# Altium footprint library EECS498Converter.PcbLib: 18 footprints (part 1 of 2)
Each footprint in its own frame and in the unit in brackets; x right, y up, seen from the top. Pads: shape width x height; smd on the part's side, far side on the other; paste and mask are expansions set on the pad; w line width, h text height; cw(c..) or ccw(c..) is an arc to the next point about the centre after c.
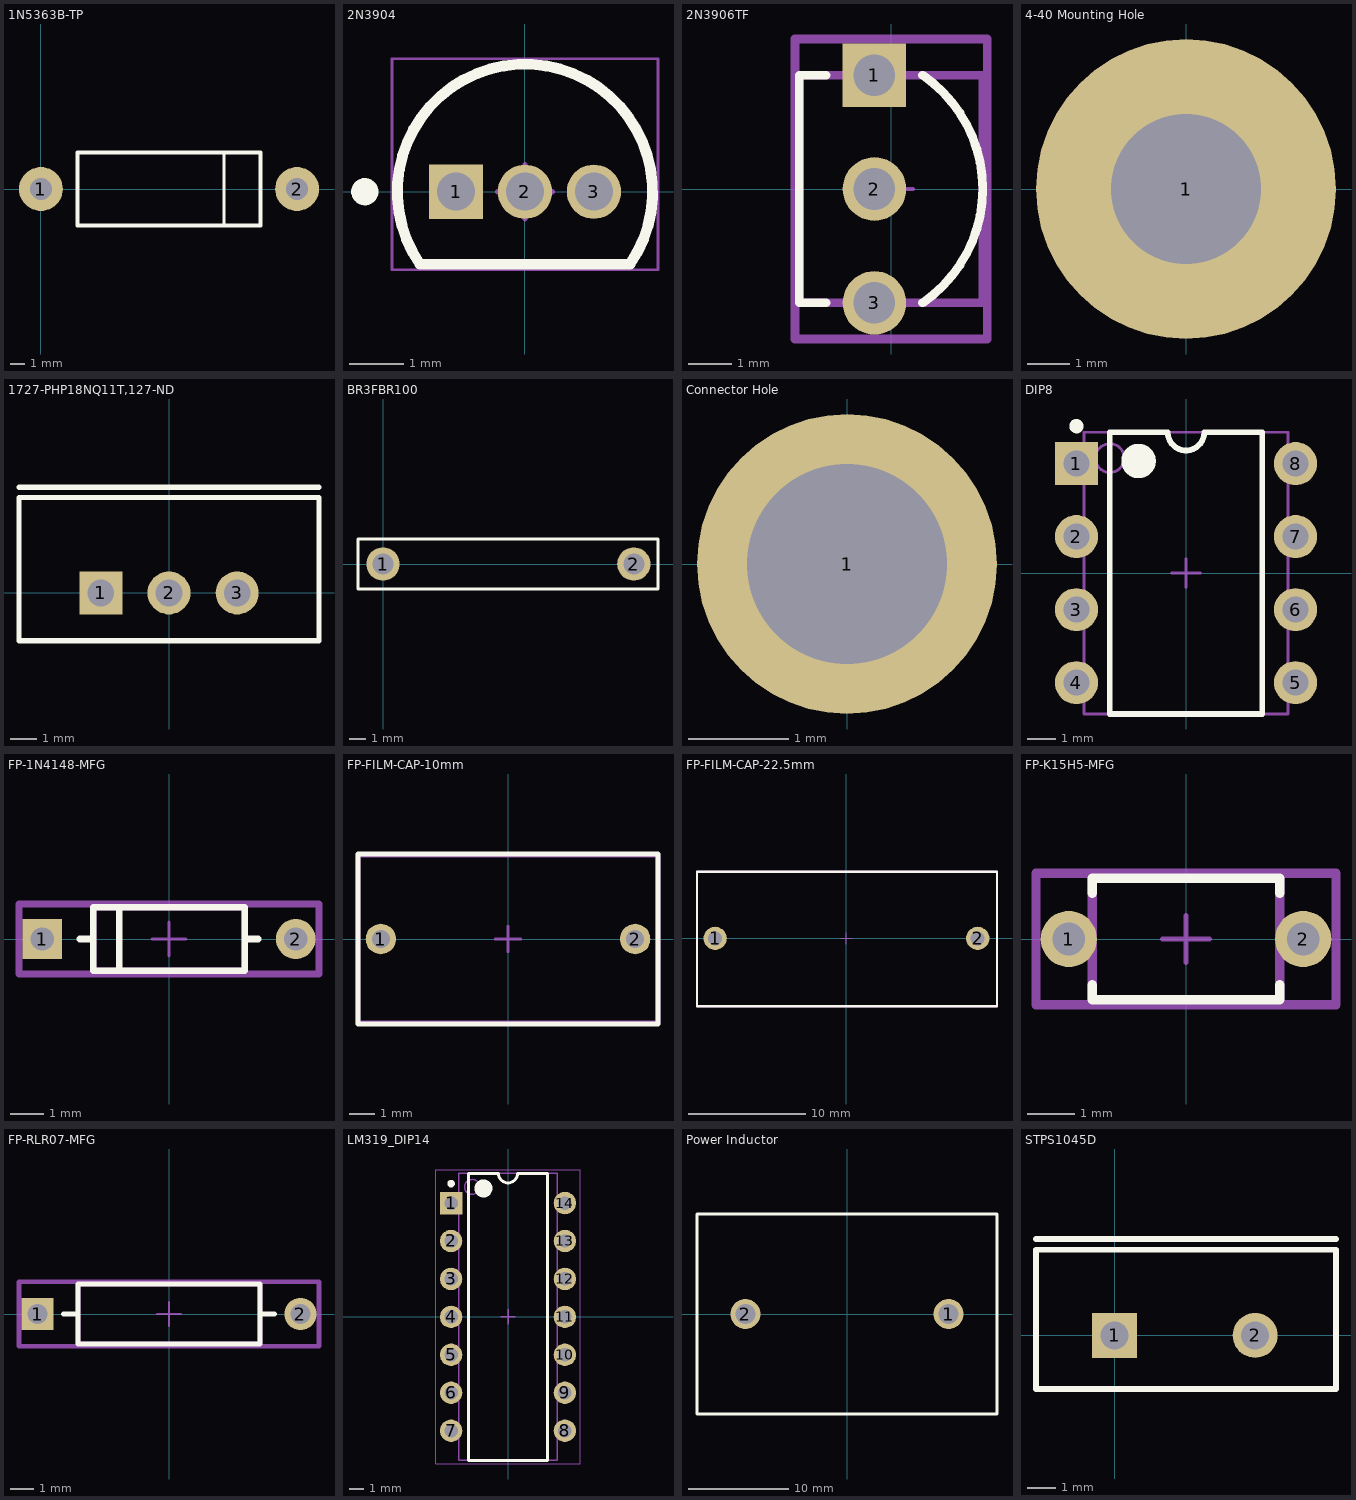
[diagram p0: the footprints below, top view; thin cyan lines are the x and y axes]

## 1N5363B-TP [mm] "Zener Diode THT"
pads (2):
  round 3 hole 1.5: 1(0,0) 2(17.5,0)
Top Overlay:
  lines w0.2: 12.5,-2.5 12.5,2.5
  lines w0.254: 2.5,-2.5 15,-2.5 15,2.5 2.5,2.5 2.5,-2.5

## 2N3904 [mm] "TO, 3-Leads, Body Dia 4.7mm, Pitch 1.27mm"
height 7.87
pads (3):
  rect 1x1 hole 0.7: 1(-1.27,0)
  round 1 hole 0.7: 2(0,0) 3(1.27,0)
Top Overlay:
  circle w0.25: c-2.95,0 r0.125
  lines w0.2: -1.934,-1.335 cw(c0,0) 1.934,-1.335 -1.934,-1.335
Mechanical 13:
  lines w0.1: -1.934,-1.335 cw(c0,0) 1.934,-1.335 -1.934,-1.335
Mechanical 15:
  lines w0.05: -2.45,-1.435 -2.45,2.45 2.45,2.45 2.45,-1.435 -2.45,-1.435
  lines w0.1: -0.5,0 0.5,0 ; 0,-0.5 0,0.5
3D body: height 7.87, standoff 2.54, extent -2.349,-1.334 2.357,2.359

## 2N3906TF [mm]
pads (3):
  rect 1.45x1.45 hole 0.95 paste-1000 mask+0: 1(-0.38,2.6)
  round 1.45 hole 0.95 paste-1000 mask+0: 2(-0.38,0) 3(-0.38,-2.6)
Top Overlay:
  lines w0.2: -1.48,-2.6 -2.095,-2.6 -2.095,2.6 -1.48,2.6 ; 0.72,-2.6 ccw(c-1.058,0) 0.72,2.6
Top 3D Body:
  lines w0.2: -2.095,-2.6 -2.095,2.6 2.095,2.6 2.095,-2.6 -2.095,-2.6
Top Courtyard:
  lines w0.2: -2.195,-3.425 -2.195,3.425 2.195,3.425 2.195,-3.425 -2.195,-3.425
Top Assembly:
  lines w0.2: -2.195,-3.425 -2.195,3.425 2.195,3.425 2.195,-3.425 -2.195,-3.425
Top Component Center:
  lines w0.1: -0.5,0 0.5,0 ; 0,-0.5 0,0.5
3D body "Trans_onsemi_KSA733YTA_eec.STEP": height 0.25, standoff 0, extent -2.195,-3.425 2.195,3.425

## 4-40 Mounting Hole [mm]
pads (1):
  round 7 hole 3.5: 1(0,0)

## 1727-PHP18NQ11T,127-ND [mm] "N-Channel 110 V 18A (Tc) 79W (Tc) Through Hole TO-220AB"
pads (3):
  rect 1.6x1.6 hole 1: 1(-2.54,0)
  round 1.6 hole 1: 2(0,0) 3(2.54,0)
Top Overlay:
  lines w0.2: -5.588,3.937 5.588,3.937 ; -5.588,-1.778 -5.588,3.556 5.588,3.556 5.588,-1.778 -5.588,-1.778
3D body "TO-220AB.stp": height 21.05, standoff -10.26, extent -5.317,-1.575 5.373,3.235

## BR3FBR100 [mil] "100 mOhms ?% 3W Through Hole Resistor Radial Current Sense, Flame Proof, Non-Inductive, Pulse Withstanding, Safety Metal Foil"
pads (2):
  round 80 hole 50: 1(0,0) 2(602,0)
Top Overlay:
  lines w7.87: -60,-60 -60,60 660,60 660,-60 -60,-60
3D body "BR3_stp.stp": height 602.87, standoff -124.69, extent -24.6,-39.36 626.97,39.38

## Connector Hole [mm]
pads (1):
  round 3 hole 2: 1(0,0)

## DIP8 [mm] "8-Pin Plastic Dual In-Line Package (PDIP)"
height 5.34
pads (8):
  rect 1.5x1.5 hole 0.9: 1(-3.81,3.81)
  round 1.5 hole 0.9: 2(-3.81,1.27) 3(-3.81,-1.27) 4(-3.81,-3.81) 5(3.81,-3.81) 6(3.81,-1.27) 7(3.81,1.27) 8(3.81,3.81)
Top Overlay:
  circle w0.25: c-3.81,5.11 r0.125
  circle w0.6: c-1.65,3.9 r0.3
  lines w0.2: -2.65,-4.9 -2.65,4.9 -0.635,4.9 ccw(c0,4.9) 0.635,4.9 2.65,4.9 2.65,-4.9 -2.65,-4.9
Mechanical 13:
  circle w0.1: c-2.65,4 r0.5
  lines w0.1: -3.55,-4.9 -3.55,4.9 3.55,4.9 3.55,-4.9 -3.55,-4.9
Mechanical 15:
  lines w0.1: -0.5,0 0.5,0 ; 0,-0.5 0,0.5
3D body: height 4.32, standoff 0, extent -3.55,-4.9 3.55,4.9

## FP-1N4148-MFG [mm]
pads (2):
  rect 1.2x1.2 hole 0.7 paste-1000 mask+0: 1(-3.813,0)
  round 1.2 hole 0.7 paste-1000 mask+0: 2(3.813,0)
Top Overlay:
  lines w0.2: -2.68,0 -2.28,0 ; -1.5,-0.855 -1.5,0.855 ; 2.28,0 2.68,0 ; -2.28,-0.955 2.28,-0.955 2.28,0.955 -2.28,0.955 -2.28,-0.955
Top 3D Body:
  lines w0.2: -2.28,-0.955 2.28,-0.955 2.28,0.955 -2.28,0.955 -2.28,-0.955
Top Courtyard:
  lines w0.2: -4.513,-1.055 4.513,-1.055 4.513,1.055 -4.513,1.055 -4.513,-1.055
Top Assembly:
  lines w0.2: -4.513,-1.055 4.513,-1.055 4.513,1.055 -4.513,1.055 -4.513,-1.055
Top Component Center:
  lines w0.1: -0.5,0 0.5,0 ; 0,-0.5 0,0.5
3D body "Diode_ON_Semiconductor_1N914B_eec.STEP": height 0.25, standoff 0, extent -4.513,-1.055 4.513,1.055

## FP-FILM-CAP-10mm [mm]
pads (2):
  round 1.2 hole 0.7 paste-1000 mask+0: 1(-5,0) 2(5,0)
Top Overlay:
  lines w0.2: -5.9,-3.35 5.9,-3.35 ; -5.9,-3.3 -5.9,3.3 ; -5.9,3.35 5.9,3.35 ; 5.9,-3.3 5.9,3.3
Top Assembly:
  lines w0.2: -5.9,-3.3 -5.9,3.3 5.9,3.3 5.9,-3.3 -5.9,-3.3
Top Component Center:
  lines w0.1: -0.5,0 0.5,0 ; 0,-0.5 0,0.5

## FP-FILM-CAP-22.5mm [mm]
pads (2):
  round 2 hole 1.2 paste-1000 mask+0: 1(-11.25,0) 2(11.25,0)
Top Overlay:
  lines w0.2: -12.8,-5.8 -12.8,5.7 12.9,5.7 12.9,-5.8 -12.8,-5.8
Top Assembly:
  lines w0.2: -12.8,-5.8 12.9,-5.8 12.9,5.7 -12.8,5.7 -12.8,-5.8
Top Component Center:
  lines w0.1: -0.5,0 0.5,0 ; 0,-0.5 0,0.5

## FP-K15H5-MFG [mm]
pads (2):
  round 1.2 hole 0.7 paste-1000 mask+0: 1(-2.5,0) 2(2.5,0)
Top Overlay:
  lines w0.2: -2,-0.975 -2,-1.3 2,-1.3 2,-0.975 ; -2,0.975 -2,1.3 2,1.3 2,0.975
Top 3D Body:
  lines w0.2: -2,-1.3 2,-1.3 2,1.3 -2,1.3 -2,-1.3
Top Courtyard:
  lines w0.2: -3.2,-1.4 3.2,-1.4 3.2,1.4 -3.2,1.4 -3.2,-1.4
Top Assembly:
  lines w0.2: -3.2,-1.4 3.2,-1.4 3.2,1.4 -3.2,1.4 -3.2,-1.4
Top Component Center:
  lines w0.1: -0.5,0 0.5,0 ; 0,-0.5 0,0.5
3D body "Cap_Vishay_K104K15X7RF53H5_eec.STEP": height 0.25, standoff 0, extent -3.2,-1.4 3.2,1.4

## FP-RLR07-MFG [mm]
pads (2):
  rect 1.35x1.35 hole 0.85 paste-1000 mask+0: 1(-5.5,0)
  round 1.35 hole 0.85 paste-1000 mask+0: 2(5.5,0)
Top Overlay:
  lines w0.2: -4.425,0 -3.81,0 ; 3.81,0 4.425,0 ; -3.81,-1.25 3.81,-1.25 3.81,1.25 -3.81,1.25 -3.81,-1.25
Top 3D Body:
  lines w0.2: -3.81,-1.25 3.81,-1.25 3.81,1.25 -3.81,1.25 -3.81,-1.25
Top Courtyard:
  lines w0.2: -6.275,-1.35 6.275,-1.35 6.275,1.35 -6.275,1.35 -6.275,-1.35
Top Assembly:
  lines w0.2: -6.275,-1.35 6.275,-1.35 6.275,1.35 -6.275,1.35 -6.275,-1.35
Top Component Center:
  lines w0.1: -0.5,0 0.5,0 ; 0,-0.5 0,0.5
3D body "Res_Vishay_RLR07C1003FPRE5_eec.STEP": height 0.25, standoff 0, extent -6.275,-1.35 6.275,1.35

## LM319_DIP14 [mm] "Comparator General Purpose DTL, Open-Collector, Open-Emitter, RTL, TTL 14-PDIP"
height 5.34
pads (14):
  rect 1.5x1.5 hole 0.9: 1(-3.81,7.62)
  round 1.5 hole 0.9: 2(-3.81,5.08) 3(-3.81,2.54) 4(-3.81,0) 5(-3.81,-2.54) 6(-3.81,-5.08) 7(-3.81,-7.62) 8(3.81,-7.62) 9(3.81,-5.08) 10(3.81,-2.54) 11(3.81,0) 12(3.81,2.54) 13(3.81,5.08) 14(3.81,7.62)
Top Overlay:
  circle w0.6: c-1.65,8.6 r0.3
  circle w0.25: c-3.81,8.92 r0.125
  lines w0.2: -2.65,-9.6 2.65,-9.6 2.65,9.6 0.635,9.6 cw(c0,9.6) -0.635,9.6 -2.65,9.6 -2.65,-9.6
Mechanical 13:
  circle w0.1: c-2.4,8.7 r0.5
  lines w0.1: -3.3,-9.6 3.3,-9.6 3.3,9.6 -3.3,9.6 -3.3,-9.6
Mechanical 15:
  lines w0.05: -4.85,-9.85 4.85,-9.85 4.85,9.85 -4.85,9.85 -4.85,-9.85
  lines w0.1: -0.5,0 0.5,0 ; 0,-0.5 0,0.5
3D body "NFF0014A.stp": height 4.08, standoff -3.31, extent -4.254,-9.525 4.254,9.525

## Power Inductor [mm] "Generic 2-pin Inductor Footprint"
pads (2):
  round 3 hole 2: 1(10.16,0) 2(-10.16,0)
Top Overlay:
  lines w0.254: -15,-10 15,-10 15,10 -15,10 -15,-10

## STPS1045D [mm] "Diode 45 V 10A Through Hole TO-220AC"
pads (2):
  rect 1.6x1.6 hole 1: 1(0,0)
  round 1.6 hole 1: 2(5,0)
Top Overlay:
  lines w0.2: -2.794,3.429 7.874,3.429 ; -2.794,-1.905 7.874,-1.905 7.874,3.048 -2.794,3.048 -2.794,-1.905
3D body "STPS1045D.STEP": height 19.69, standoff -10.06, extent -2.56,-1.681 7.64,2.819